# EAGLE library part MPL3115A2 (library imu)
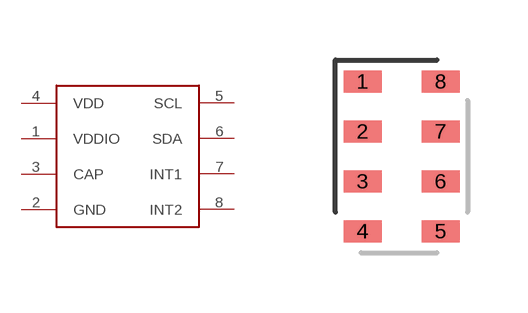
[diagram p3: symbol with the pads of 8-TLGA; footprint 8-TLGA]

Designator prefix -

## MPL3115A2 (DIGIKEY: MPL3115A2)  [8-TLGA]
1  VDDIO
2  GND
3  CAP
4  VDD
5  SCL
6  SDA
7  INT1
8  INT2

## Footprint 8-TLGA (pad centres in mm)
smd 0.95 x 0.55: 1 -0.975,1.875; 2 -0.975,0.625; 3 -0.975,-0.625; 4 -0.975,-1.875; 5 0.975,-1.875; 6 0.975,-0.625; 7 0.975,0.625; 8 0.975,1.875